# Altium schematic symbol library Inductor.SchLib: 5 symbols
Pins are listed as number, name and electrical type; pins without a type are passive.

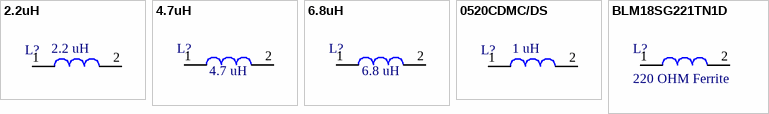
[diagram p0: symbols 2.2uH to BLM18SG221TN1D]

## 2.2uH
designator L?  value 2.2 uH  (hidden comment: *)
Sumida 2.2 uH Inductor, 5.5mm x 5.2mm x 2mm; Supplier 1: Digi-Key; Supplier Part Number 1: 308-1827-1-ND
footprint 0520CDMCDS (Inductor Made by Sumida)
pins: 1, 2

## 4.7uH
designator L?, comment value 4.7 uH  (hidden comment: NR3012T4R7M)
Taiyo Yuden 3.3mm x 3.3 mm, 770 mA, 130 mOhms; Current: 770 mA; Resistance: 130 mOhms; Supplier Part Number 1: 963-NR3012T4R7M; Supplier 1: Mouser
footprint NR3012 (Taiyo Yuden Inductor)
pins: 1, 2

## 6.8uH
designator L?, comment value 6.8 uH  (hidden comment: NR3012T6R8M)
Taiyo Yuden 3.3mm x 3.3 mm, 770 mA, 130 mOhms
footprint NR3012 (Taiyo Yuden Inductor)
pins: 1, 2

## 0520CDMC/DS
designator L?  value 1 uH  (hidden comment: 0520CDMC/DS)
1 uH; Supplier 1: Digi-Key; Supplier Part Number 1: 308-1825-1-ND
footprint 0520CDMCDS (Inductor Made by Sumida)
pins: 1, 2

## BLM18SG221TN1D
designator L?, comment 220 OHM Ferrite
FERRITE CHIP 220 OHM 2500MA 0603; Manufacturer: Murata Electronics North America; Manufacturer Part Number: BLM18SG221TN1D; Current Rating: 2.5A; DC Resistance (DCR): 40 mOhm Max; Filter Type: Differential Mode - Single; Impedance @ Frequency: 220 Ohm @ 100MHz; Supplier 1: Digi-Key; Supplier Part Number 1: 490-5225-1-ND; RoHS: RoHS Compliant; Category: Filters; Stock 1: 163144; Pricing 1: 1=0.14, 10=0.116, 50=0.075, 100=0.0646, 250=0.05172, 500=0.04654, 1000=0.03878, 5000=0.03619 (USD); Packaging: Cut Tape (CT); Package / Case: 0603 (1608 Metric); Mounting Type: Surface Mount; Height (Max): 0.037" (0.95mm); Size / Dimension: 0.063" L x 0.031" W (1.60mm x 0.80mm); ComponentLink1URL: http://search.murata.co.jp/Ceramy/image/img/PDF/ENG/L0110S0100BLM18S.pdf; ComponentLink1Description: http://search.murata.co.jp/Ceramy/image/img/PDF/ENG/L0110S0100BLM18S.pdf
footprint SMT 0603 (1608)
pins: 1, 2